# Altium footprint library L15mm.PcbLib: 1 footprints
Each footprint in its own frame and in the unit in brackets; x right, y up, seen from the top. Pads: shape width x height; smd on the part's side, far side on the other; paste and mask are expansions set on the pad; w line width, h text height; cw(c..) or ccw(c..) is an arc to the next point about the centre after c.
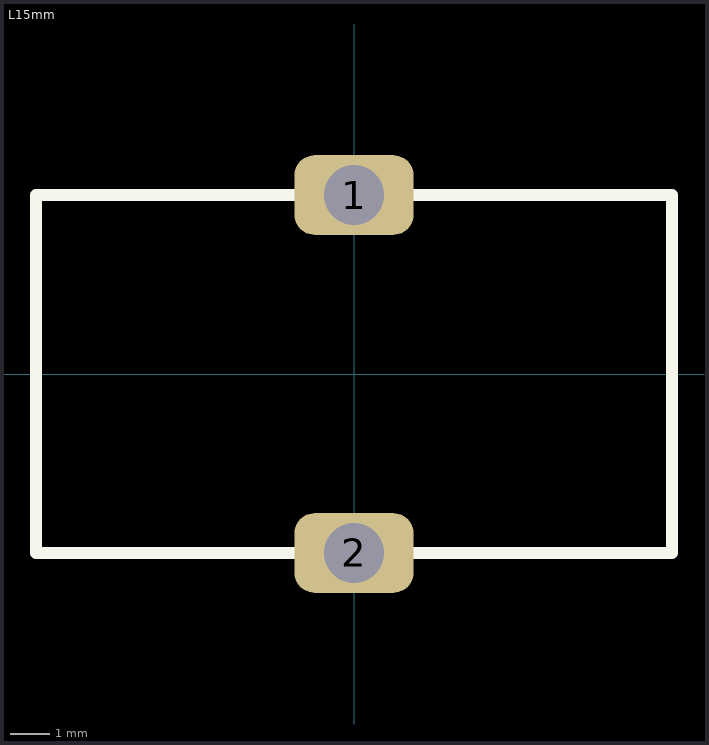
[diagram p0: the footprint, top view; thin cyan lines are the x and y axes]

## L15mm [mm]
pads (2):
  rrect50% 3x2 hole 1.5: 1(0,4.5) 2(0,-4.5)
Top Overlay:
  lines w0.3: -8,-4.5 -8,4.5 8,4.5 8,-4.5 -8,-4.5
3D body: height 12.84, standoff -3.86, extent -6.837,-4.635 6.837,4.863